# EAGLE library part CSD87350Q5D (library firefly)
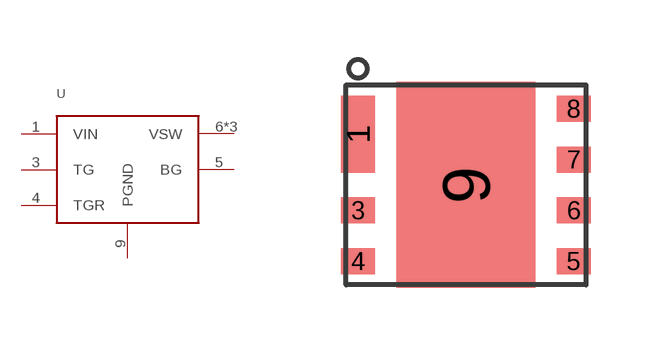
[diagram p38: symbol with the pads of CSD87350Q5D; footprint CSD87350Q5D]

Designator prefix -

## CSD87350Q5D  [CSD87350Q5D]
1  VIN
3  TG
4  TGR
5  BG
6  VSW
7  VSW
8  VSW
9  PGND

## Footprint CSD87350Q5D (pad centres in mm)
smd 0.85 x 1.92: 1 -2.695,1.27
smd 0.85 x 0.65: 3 -2.695,-0.635; 4 -2.695,-1.905; 5 2.695,-1.905; 6 2.695,-0.635; 7 2.695,0.635; 8 2.695,1.905
smd 3.48 x 5.15: 9 0,0